# Altium footprint library PcbLib1.pcblib: 48 footprints (part 1 of 3)
Each footprint in its own frame and in the unit in brackets; x right, y up, seen from the top. Pads: shape width x height; smd on the part's side, far side on the other; paste and mask are expansions set on the pad; w line width, h text height; cw(c..) or ccw(c..) is an arc to the next point about the centre after c.
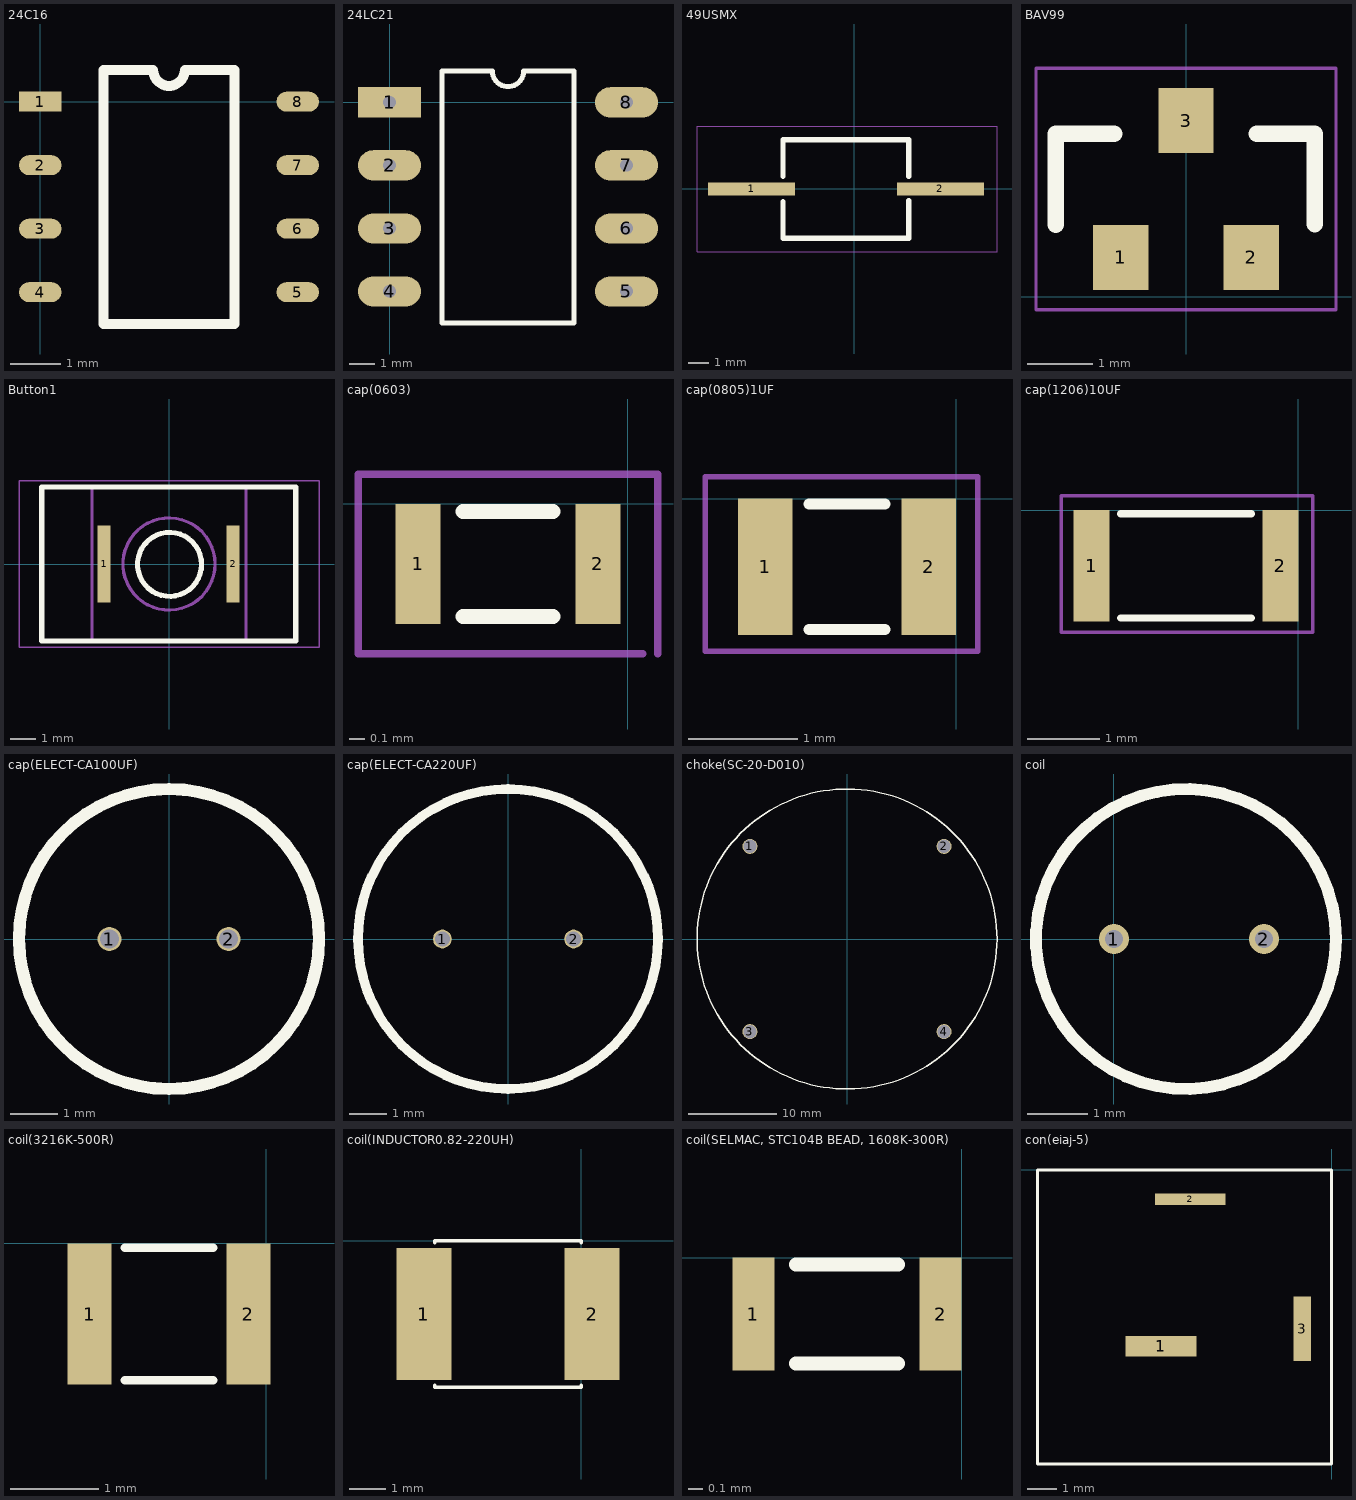
[diagram p0: the footprints below, top view; thin cyan lines are the x and y axes]

## 24C16 [mm]
pads (8):
  rect 0.85x0.4 smd: 1(0,0)
  oval 0.85x0.4 smd: 2(0,-1.27) 3(0,-2.54) 4(0,-3.81) 5(5.15,-3.81) 6(5.15,-2.54) 7(5.15,-1.27) 8(5.15,0)
Top Overlay:
  lines w0.2: 1.26,-4.445 1.26,0.635 2.257,0.635 ccw(c2.575,0.635) 2.892,0.635 3.89,0.635 3.89,-4.445 1.26,-4.445

## 24LC21 [mm]
pads (8):
  rect 2.5x1.2 hole 0.5: 1(0,0)
  oval 2.5x1.2 hole 0.5: 2(0,-2.5) 3(0,-5) 4(0,-7.5) 5(9.4,-7.5) 6(9.4,-5) 7(9.4,-2.5) 8(9.4,0)
Top Overlay:
  lines w0.2: 2.085,-8.75 7.315,-8.75 7.315,1.25 5.325,1.25 cw(c4.7,1.25) 4.075,1.25 2.085,1.25 2.085,-8.75

## 49USMX [mm]
height 8.2
pads (2):
  rect 4.15x0.63 smd: 1(-4.9,0) 2(4.1,0)
Top Overlay:
  lines w0.254: -3.4,-0.6 -3.4,-2.35 2.6,-2.35 2.6,-0.55 ; -3.4,0.6 -3.4,2.35 2.6,2.35 2.6,0.6
Mechanical 7:
  lines w0.05: 6.8,-0.1 6.8,3 -7.5,3 -7.5,-3 6.8,-3 6.8,0

## BAV99 [mm]
pads (3):
  rect 0.85x1 smd: 1(-1,0.6) 2(1,0.6) 3(0,2.7)
Top Overlay:
  lines w0.254: -2,1.1 -2,2.5 -1.1,2.5 ; 1.086,2.5 1.975,2.5 1.975,1.114
Mechanical 7:
  lines w0.05: -2.3,-0.2 -2.3,3.5 2.3,3.5 2.3,-0.2 -2.3,-0.2

## Button1 [mm]
pads (2):
  rect 0.5x3 smd: 1(-2.53,0.006) 2(2.497,0.006)
Top Overlay:
  lines w0.2: 1.271,-0.014 cw(c0.023,-0.013) 1.271,-0.009 ; 4.942,-3 -4.961,-3 -4.961,3 4.944,3 4.944,-2.998
Mechanical 4:
  circle w0.127: c0,0 r1.796
  circle w0.127: c0,0 r1.796
  lines w0.127: -3,-3 -3,3 ; -3,-3 3,-3 ; -3,-3 -3,3 ; -3,-3 3,-3 ; -3,3 3,3 ; -3,3 3,3 ; 3,-3 3,3 ; 3,-3 3,3
Mechanical 16:
  lines w0.05: -5.85,-3.25 5.85,-3.25 5.85,3.25 -5.85,3.25 -5.85,-3.25

## cap(0603) [mm]
pads (2):
  rect 0.3x0.8 smd: 1(-1.4,-0.4) 2(-0.2,-0.4)
Top Overlay:
  lines w0.1: -1.1,-0.75 -0.5,-0.75 ; -1.1,-0.05 -0.5,-0.05
Mechanical 7:
  lines w0.05: 0.1,-1 -1.8,-1 -1.8,0.2 0.2,0.2 0.2,-1

## cap(0805)1UF [mm]
pads (2):
  rect 0.5x1.25 smd: 1(-1.75,-0.625) 2(-0.25,-0.625)
Top Overlay:
  lines w0.1: -1.35,-1.2 -0.65,-1.2 ; -1.35,-0.05 -0.65,-0.05
Mechanical 7:
  lines w0.05: -2.3,-1.4 0.2,-1.4 0.2,0.2 -2.3,0.2 -2.3,-1.4

## cap(1206)10UF [mm]
pads (2):
  rect 0.5x1.55 smd: 1(-2.875,-0.775) 2(-0.25,-0.775)
Top Overlay:
  lines w0.1: -2.475,-1.5 -0.65,-1.5 ; -2.475,-0.05 -0.65,-0.05
Mechanical 7:
  lines w0.05: -3.3,-1.7 -3.3,0.2 0.2,0.2 0.2,-1.7 -3.3,-1.7

## cap(ELECT-CA100UF) [mm]
pads (2):
  round 0.5 hole 0.4: 1(-1.25,0) 2(1.25,0)
Top Overlay:
  circle w0.254: c0,0 r3.15

## cap(ELECT-CA220UF) [mm]
pads (2):
  round 0.5 hole 0.4: 1(-1.75,0) 2(1.75,0)
Top Overlay:
  circle w0.254: c0,0 r4

## choke(SC-20-D010) [mm]
pads (4):
  round 1.7 hole 1.5: 1(-11,10.5) 2(11,10.5) 3(-11,-10.5) 4(11,-10.5)
Top Overlay:
  circle w0.15: c0,0 r17

## coil [mm]
pads (2):
  round 0.5 hole 0.3: 1(0,0) 2(2.5,0)
Top Overlay:
  circle w0.2: c1.2,0 r2.5

## coil(3216K-500R) [mm]
pads (2):
  rect 0.5x1.6 smd: 1(-2,-0.8) 2(-0.2,-0.8)
Top Overlay:
  lines w0.1: -1.6,-1.55 -0.6,-1.55 ; -1.6,-0.05 -0.6,-0.05

## coil(INDUCTOR0.82-220UH) [mm]
pads (2):
  rect 1.5x3.6 smd: 1(-4.3,-2) 2(0.3,-2)
Top Overlay:
  lines w0.1: -4,-3.95 -4,-4 0,-4 0,-3.95 ; -4,-0.05 -4,0 0,0 0,-0.05

## coil(SELMAC, STC104B BEAD, 1608K-300R) [mm]
pads (2):
  rect 0.3x0.8 smd: 1(-1.475,-0.4) 2(-0.15,-0.4)
Top Overlay:
  lines w0.1: -1.175,-0.75 -0.45,-0.75 ; -1.175,-0.05 -0.45,-0.05

## con(eiaj-5) [mm]
pads (3):
  rect 2.4x0.7 smd: 1(-5.8,-6)
  rect 2.4x0.4 smd: 2(-4.8,-1)
  rect 0.6x2.2 smd: 3(-1,-5.4)
Top Overlay:
  lines w0.1: -10,-10 0,-10 0,0 -10,0 -10,-10